# EAGLE library part STEREOSW (library _mtvl.DIY-PCB)
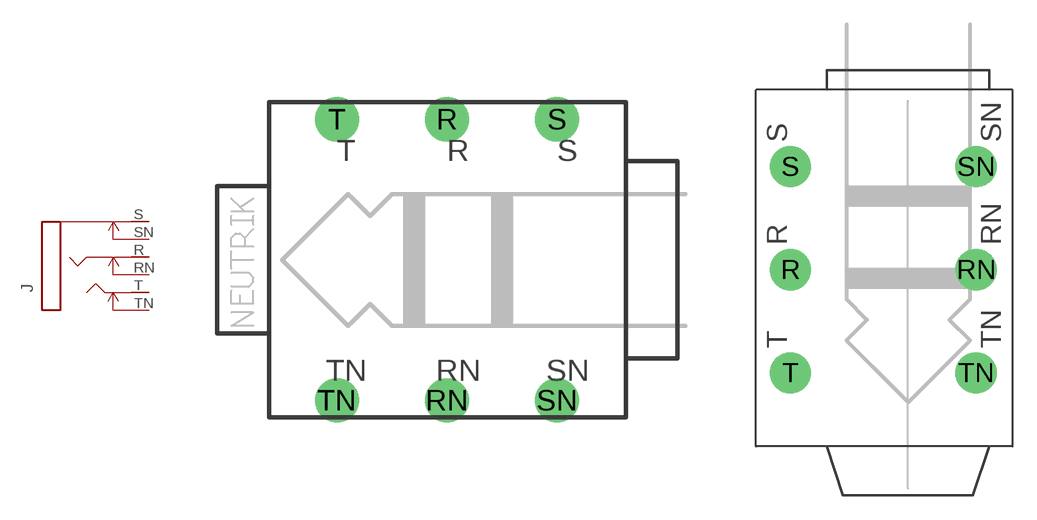
[diagram p3: symbol with the pads of NMJ6HCD2; footprints NMJ6HCD2, ACJS-MHOM]

Designator prefix J

## STEREOSW  [NMJ6HCD2]
R  R  pas
RN  RN  pas
S  S  pas
SN  SN  pas
T  T  pas
TN  TN  pas

## STEREOSWACJS-MHOM  [ACJS-MHOM]
Pads as for NMJ6HCD2

## STEREOSWS  [NMJ6HC-S]
Pads as for NMJ6HCD2

## Footprint NMJ6HCD2 (pad centres in mm)
drill 1.5 pad 2.54: R 0,8.115; RN 0,-8.115; S 6.35,8.115; SN 6.35,-8.115; T -6.35,8.115; TN -6.35,-8.115

## Footprint ACJS-MHOM (pad centres in mm)
Amphenol ACJS-MHOM https://www.arrow.com/en/products/acjs-mhom/amphenol
drill 1.524 pad 2.54: R -7.239,0.079; RN 4.191,0.079; S -7.239,6.429; SN 4.191,6.429; T -7.239,-6.271; TN 4.191,-6.271

## Footprint NMJ6HC-S (pad centres in mm)
drill 1.5 pad 2.184 long: R 0,8.115; RN 0,-8.115; S 6.35,8.115; SN 6.35,-8.115; T -6.35,8.115; TN -6.35,-8.115